# EAGLE library part SN65HVD230DR (library canusb)
SN65HVD23x 3.3-V CAN Bus Transceivers
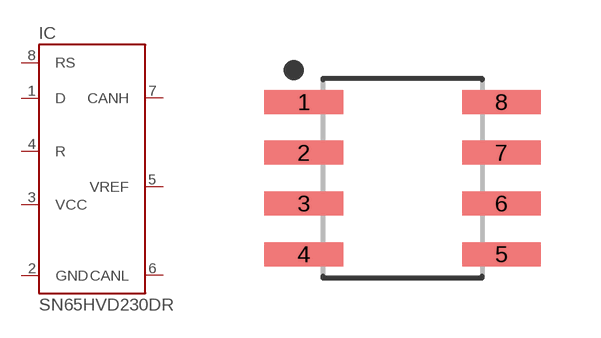
[diagram p2: symbol with the pads of SOIC127P599X175-8N; footprint SOIC127P599X175-8N]

Designator prefix IC

## SN65HVD230DR  [SOIC127P599X175-8N]
1  D  in
2  GND  pwr
3  VCC  pwr
4  R  out
5  VREF  pwr
6  CANL
7  CANH
8  RS  pwr

## Footprint SOIC127P599X175-8N (pad centres in mm)
8-SOIC, 1.27 mm pitch, 6.00 mm span, 4.91 X 3.90 X 1.75 mm body 8-pin SOIC package with 1.27 mm pitch, 6.00 mm span with body size 4.91 X 3.90 X 1.75 mm
smd 1.967 x 0.599: 1 -2.469,1.905; 2 -2.469,0.635; 3 -2.469,-0.635; 4 -2.469,-1.905; 5 2.469,-1.905; 6 2.469,-0.635; 7 2.469,0.635; 8 2.469,1.905